# Altium schematic symbol library MF-RHS800-0.SchLib: 1 symbol
Pins are listed as number, name and electrical type; pins without a type are passive.

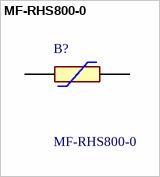
[diagram p0: symbol MF-RHS800-0]

## MF-RHS800-0
designator B?
PTC 8.0A 16V RADIAL LEADED HI-TEMP; Manufacturer_Name: Bourns; Geometry.Height: 24.7mm; Mouser Part Number: 652-MF-RHS800-0; Mouser Price/Stock: https://www.mouser.co.uk/ProductDetail/Bourns/MF-RHS800-0?qs=mELouGlnn3db4Obe02aVdw%3D%3D; Manufacturer_Part_Number: MF-RHS800-0; Datasheet Link: https://www.bourns.com/docs/Product-Datasheets/MF-RHS.pdf
footprint MFRHS8000
pins: 1, 2